# Altium footprint library Standardbauteile.PcbLib: 17 footprints (part 1 of 2)
Each footprint in its own frame and in the unit in brackets; x right, y up, seen from the top. Pads: shape width x height; smd on the part's side, far side on the other; paste and mask are expansions set on the pad; w line width, h text height; cw(c..) or ccw(c..) is an arc to the next point about the centre after c.
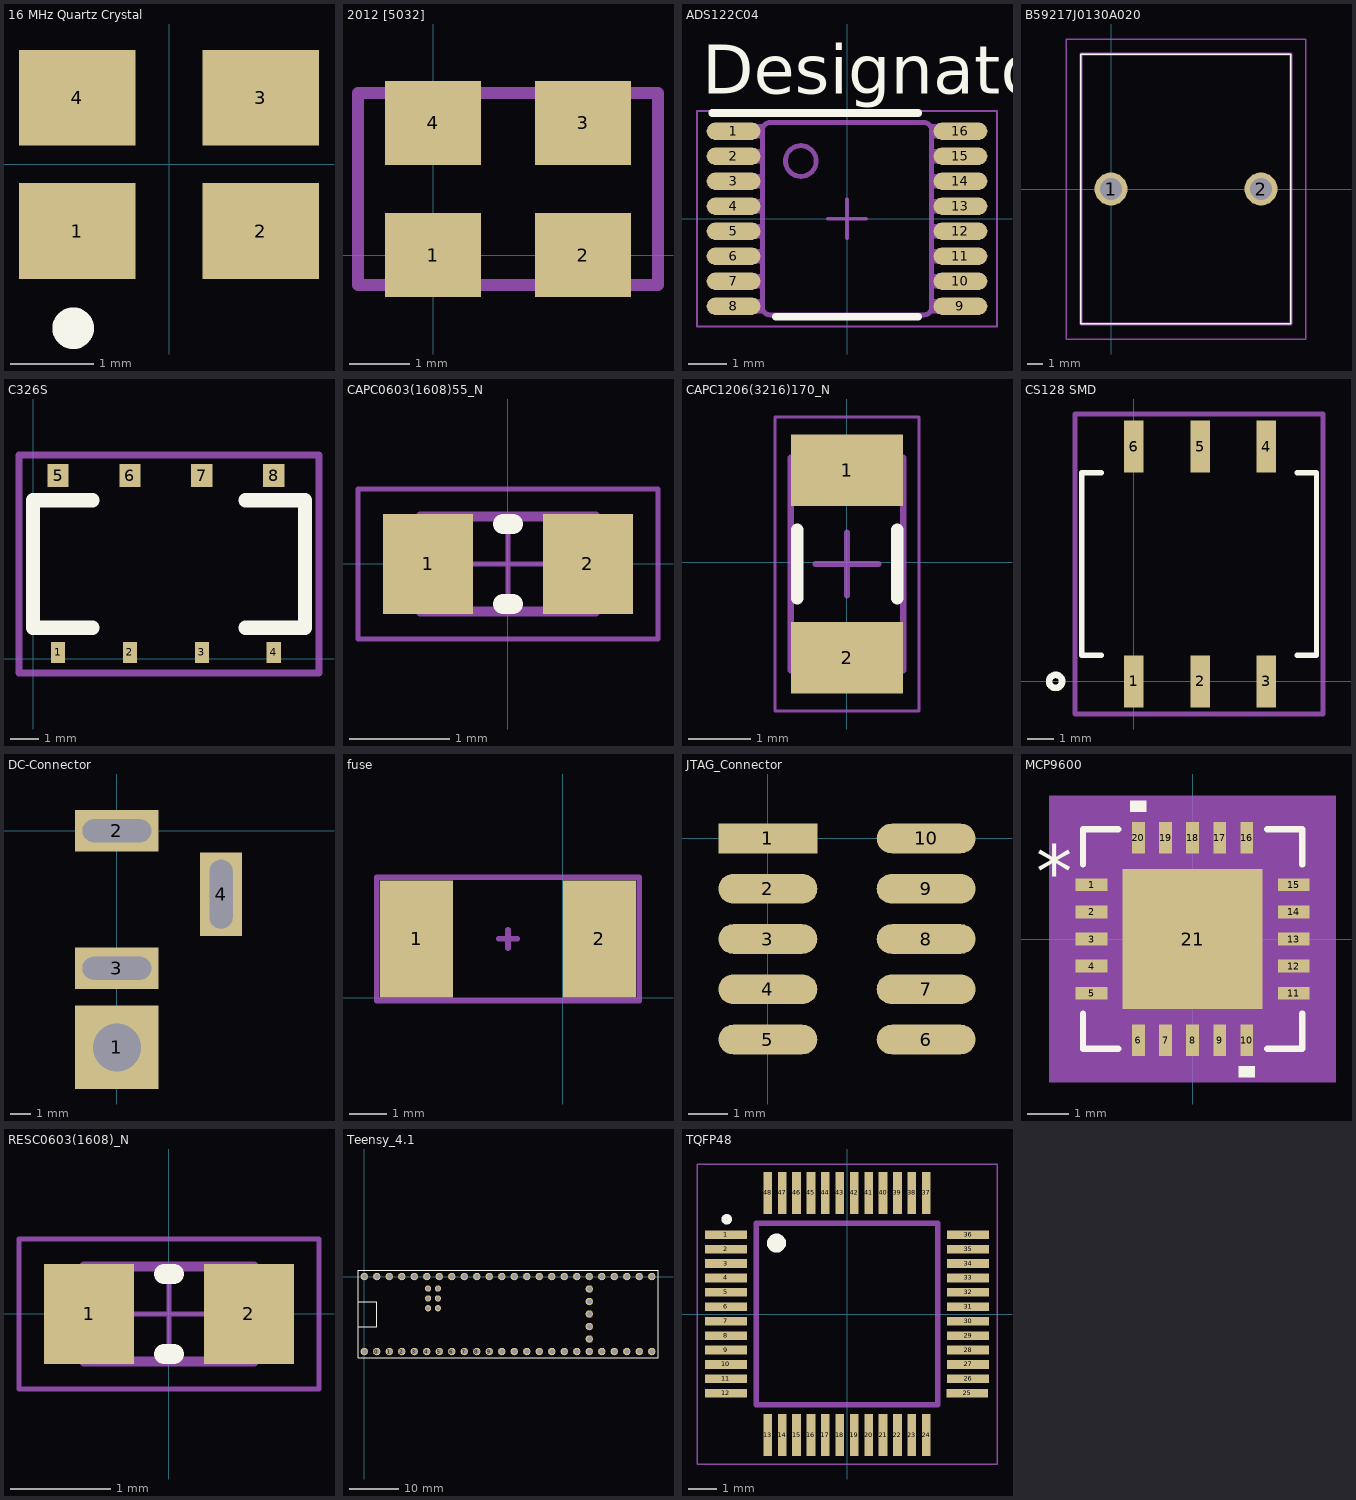
[diagram p0: the footprints below, top view; thin cyan lines are the x and y axes]

## 16 MHz Quartz Crystal [mm] "CFPX-5, Quartz Crystal, SM; Body 3.4 x 2.7 mm (LxW max)"
height 1
pads (4):
  rect 1.4x1.15 smd: 1(-1.1,-0.8) 2(1.1,-0.8) 3(1.1,0.8) 4(-1.1,0.8)
Top Overlay:
  circle w0.25: c-1.15,-1.967 r0.125

## 2012 [5032] [mm] "4-Pad Oscillator"
height 1
pads (4):
  rect 1.6x1.4 smd: 1(0,0) 2(2.5,0) 3(2.5,2.2) 4(0,2.2)
Mechanical 1:
  lines w0.2: -1.25,-0.5 -1.25,2.7 3.75,2.7 3.75,-0.5 -1.25,-0.5
3D body: height 1, standoff 0, extent -1.249,-0.499 3.749,2.699

## ADS122C04 [mm]
pads (16):
  oval 1.4x0.45 smd paste+0 mask+0.051: 1(-2.95,2.275) 2(-2.95,1.625) 3(-2.95,0.975) 4(-2.95,0.325) 5(-2.95,-0.325) 6(-2.95,-0.975) 7(-2.95,-1.625) 8(-2.95,-2.275) 9(2.95,-2.275) 10(2.95,-1.625) 11(2.95,-0.975) 12(2.95,-0.325) 13(2.95,0.325) 14(2.95,0.975) 15(2.95,1.625) 16(2.95,2.275)
Top Overlay:
  lines w0.2: -3.5,2.75 1.85,2.75 ; -1.85,-2.55 1.85,-2.55
  text "Designator9" at -3.759,3.251 h1.27
Mechanical 13:
  drawing of 202 lines, arcs and shapes, not listed
  text ".Designator" at -1.854,-1.143 h1.27
Mechanical 15:
  lines w0.05: -3.9,-2.8 3.9,-2.8 3.9,2.8 -3.9,2.8 -3.9,-2.8
  lines w0.1: -0.5,0 0.5,0 ; 0,-0.5 0,0.5
3D body: height 0.76, standoff 0, extent -2.2,-2.5 2.2,2.5
3D body: height 0.25, standoff 0, extent 0,0 0.254,0.254

## B59217J0130A020 [mm]
pads (2):
  round 2.19 hole 1.46: 1(0,0) 2(10,0)
Top Overlay:
  lines w0.1: -2,-9 -2,9 12,9 12,-9 -2,-9
Mechanical 13:
  lines w0.2: -2,-9 -2,9 12,9 12,-9 -2,-9
Mechanical 15:
  lines w0.1: -3,-10 -3,10 13,10 13,-10 -3,-10
3D body "B59219J0130A020.stp": height 22.7, standoff -5, extent -2,-9 12,9

## C326S [mm] "C326S CotoMos"
pads (8):
  rect 0.5x0.75 smd: 1(0.88,0.225) 2(3.42,0.225) 3(5.96,0.225) 4(8.5,0.225)
  rect 0.75x0.8 smd: 5(0.88,6.475) 6(3.42,6.475) 7(5.96,6.475) 8(8.5,6.475)
Top Overlay:
  lines w0.5: 2.1,1.1 0,1.1 0,5.6 2.1,5.6 ; 7.5,1.1 9.6,1.1 9.6,5.6 7.5,5.6
Mechanical 15:
  lines w0.254: -0.5,-0.5 10.1,-0.5 10.1,7 10.1,7.2 -0.5,7.2 -0.5,-0.5
3D body "SOP-8-PIN-SMD-A(2).stp": height 2.02, standoff 0.03, extent 0,-0.025 9.38,6.775
3D body: height 3.4, standoff -3.4, extent 0.9,-0.6 0.9,0.2

## CAPC0603(1608)55_N [mm] "Chip Capacitor, Body 1.6x0.8mm, Height 0.55mm, IPC Medium Density"
height 0.55
pads (2):
  rect 0.9x1 smd: 1(-0.8,0) 2(0.8,0)
Top Overlay:
  lines w0.2: -0.05,-0.4 0.05,-0.4 ; -0.05,0.4 0.05,0.4
Mechanical 13:
  lines w0.1: -0.875,-0.475 -0.875,0.475 0.875,0.475 0.875,-0.475 -0.875,-0.475
Mechanical 15:
  lines w0.05: -0.475,0 0.475,0 ; 0,-0.475 0,0.475 ; -1.5,-0.75 -1.5,0.75 1.5,0.75 1.5,-0.75 -1.5,-0.75
3D body: height 0.55, standoff 0, extent -0.525,-0.475 0.525,0.475
3D body: height 0.55, standoff 0, extent -0.875,-0.475 -0.525,0.475
3D body: height 0.55, standoff 0, extent 0.525,-0.475 0.875,0.475

## CAPC1206(3216)170_N [mm] "1206 Capacitor"
pads (2):
  rect 1.8x1.15 smd: 1(0,1.475) 2(0,-1.525)
Top Overlay:
  lines w0.2: -0.8,-0.575 -0.8,0.525 ; 0.8,-0.575 0.8,0.525
Mechanical 13:
  lines w0.1: -0.9,-1.725 0.9,-1.725 0.9,1.675 -0.9,1.675 -0.9,-1.725
Mechanical 15:
  lines w0.05: -1.15,-2.375 1.15,-2.375 1.15,2.325 -1.15,2.325 -1.15,-2.375
  lines w0.1: -0.5,-0.025 0.5,-0.025 ; 0,-0.525 0,0.475
3D body: height 1.7, standoff 0, extent -0.9,-1.225 0.9,1.175
3D body: height 1.7, standoff 0, extent -0.9,1.175 0.9,1.675
3D body: height 1.7, standoff 0, extent -0.9,-1.725 0.9,-1.225

## CS128 SMD [mm]
pads (6):
  rect 0.75x2 smd: 1(0,0) 2(2.54,0) 3(5.08,0) 4(5.08,9) 5(2.54,9) 6(0,9)
Top Overlay:
  circle w0.254: c-3,0 r0.25
  lines w0.2: -1.25,1 -2,1 -2,8 -1.25,8 ; 6.25,1 7,1 7,8 6.25,8
Mechanical 15:
  lines w0.2: -2.25,-1.25 -2.25,10.25 7.25,10.25 7.25,-1.25 -2.25,-1.25
3D body "DIP-6-PIN-SMD-A.stp": height 3.5, standoff 0, extent -1.86,-0.5 6.94,9.5

## DC-Connector [mm] "CLIFF ELECTRONIC COMPONENTS  FC681478  DC-Leistungssteckverbinder, Buchse, 2 A, 2.1 mm, Durchsteckmontage"
pads (4):
  rect 4x4 hole 2.3: 1(0,-10.4)
  rect 4x2 hole 1.1 slot 3.3 at 0 deg: 2(0,0) 3(0,-6.6)
  rect 2x4 hole 1.1 slot 3.3 at 90 deg: 4(5,-3.05)

## fuse [mm] "Sicherungen zur Aufbaumontage 500mA 350 VAC 72 VCD"
height 2.54
pads (2):
  rect 1.96x3.15 smd: 1(-3.93,1.575) 2(0.98,1.575)
Mechanical 15:
  lines w0.15: -1.725,1.575 -1.225,1.575 ; -1.475,1.325 -1.475,1.825 ; -5,-0.09 -5,3.237 2.051,3.237 2.051,-0.09 -5,-0.09
3D body: height 2.34, standoff 0.2, extent -4.524,0.076 1.575,3.075
3D body: height 2.54, standoff 0, extent -4.525,0 -3.026,3.149
3D body: height 2.54, standoff 0, extent 0.076,0 1.575,3.149

## JTAG_Connector [mm] "M50-3600542"
pads (10):
  rect 2.5x0.75 smd: 1(0,0)
  oval 2.5x0.75 smd: 2(0,-1.27) 3(0,-2.54) 4(0,-3.81) 5(0,-5.08) 6(4,-5.08) 7(4,-3.81) 8(4,-2.54) 9(4,-1.27) 10(4,0)
3D body "m50-3600542_asm.stp": height 4.68, standoff 0, extent -0.85,-5.715 4.65,0.635

## MCP9600 [mm]
pads (21):
  rect 0.757x0.306 smd paste+0 mask+0: 1(-2.423,1.3) 2(-2.423,0.65) 3(-2.423,0) 4(-2.423,-0.65) 5(-2.423,-1.3) 11(2.423,-1.3) 12(2.423,-0.65) 13(2.423,0) 14(2.423,0.65) 15(2.423,1.3)
  rect 0.306x0.757 smd paste+0 mask+0: 6(-1.3,-2.423) 7(-0.65,-2.423) 8(0,-2.423) 9(0.65,-2.423) 10(1.3,-2.423) 16(1.3,2.423) 17(0.65,2.423) 18(0,2.423) 19(-0.65,2.423) 20(-1.3,2.423)
  rect 3.353x3.353 smd paste-1.664 mask+0: 21(0,0)
Top Overlay:
  region: -1.109,3.056 -1.49,3.056 -1.49,3.31 -1.109,3.31
  region: 1.49,-3.056 1.109,-3.056 1.109,-3.31 1.49,-3.31
  lines w0.152: -2.629,-1.786 -2.629,-2.629 -1.786,-2.629 ; -2.629,1.786 -2.629,2.629 -1.786,2.629 ; 1.786,-2.629 2.629,-2.629 2.629,-1.786 ; 1.786,2.629 2.629,2.629 2.629,1.786
  text "*" at -3.754,0.99 h1.27
Top Paste:
  region: 1.576,-0.1 0.1,-0.1 0.1,-1.576 1.576,-1.576
  region: 1.576,1.576 0.1,1.576 0.1,0.1 1.576,0.1
  region: -0.1,-0.1 -1.576,-0.1 -1.576,-1.576 -0.1,-1.576
  region: -0.1,1.576 -1.576,1.576 -1.576,0.1 -0.1,0.1
Mechanical 5:
  region: 3.437,-3.437 -3.437,-3.437 -3.437,3.437 3.437,3.437
Mechanical 13:
  lines w0.025: -2.502,1.232 -1.232,2.502 ; -2.502,-2.502 -2.502,2.502 2.502,2.502 2.502,-2.502 -2.502,-2.502 ; -2.502,-1.478 -2.502,-1.122 -2.502,-1.478 ; -2.502,-0.828 -2.502,-0.472 -2.502,-0.828 ; -2.502,-0.178 -2.502,0.178 -2.502,-0.178 ; -2.502,0.472 -2.502,0.828 -2.502,0.472 ; -2.502,1.122 -2.502,1.478 -2.502,1.122 ; -1.478,-2.502 -1.122,-2.502 -1.478,-2.502 ; -1.478,2.502 -1.122,2.502 -1.478,2.502 ; -0.828,-2.502 -0.472,-2.502 -0.828,-2.502 ; -0.828,2.502 -0.472,2.502 -0.828,2.502 ; -0.178,-2.502 0.178,-2.502 -0.178,-2.502 ; -0.178,2.502 0.178,2.502 -0.178,2.502 ; 0.472,-2.502 0.828,-2.502 0.472,-2.502 ; 0.472,2.502 0.828,2.502 0.472,2.502 ; 1.122,-2.502 1.478,-2.502 1.122,-2.502 ; 1.122,2.502 1.478,2.502 1.122,2.502 ; 2.502,-1.478 2.502,-1.122 2.502,-1.478 ; 2.502,-0.828 2.502,-0.472 2.502,-0.828 ; 2.502,-0.178 2.502,0.178 2.502,-0.178 ; 2.502,0.472 2.502,0.828 2.502,0.472 ; 2.502,1.122 2.502,1.478 2.502,1.122
  text "*" at -2.362,0.99 h1.27
Mechanical 15:
  region: -1.707,-2.756 -2.756,-2.756 -2.756,-1.707 -3.056,-1.707 -3.056,1.707 -2.756,1.707 -2.756,2.756 -1.707,2.756 -1.707,3.056 1.707,3.056 1.707,2.756 2.756,2.756 2.756,1.707 3.056,1.707 3.056,-1.707 2.756,-1.707 2.756,-2.756 1.707,-2.756 1.707,-3.056 -1.707,-3.056
  lines w0.152: -3.056,-1.707 -3.056,1.707 -2.756,1.707 -2.756,2.756 -1.707,2.756 -1.707,3.056 1.707,3.056 1.707,2.756 2.756,2.756 2.756,1.707 3.056,1.707 3.056,-1.707 2.756,-1.707 2.756,-2.756 1.707,-2.756 1.707,-3.056 -1.707,-3.056 -1.707,-2.756 -2.756,-2.756 -2.756,-1.707 -3.056,-1.707
3D body: height 0.25, standoff 0, extent 0,0 0.254,0.254

## PCBComponent_1 [mm]

## RESC0603(1608)_N [mm] "Chip Resistor, Body 1.6x0.8mm, IPC Medium Density"
height 0.6
pads (2):
  rect 0.9x1 smd: 1(-0.8,0) 2(0.8,0)
Top Overlay:
  lines w0.2: -0.05,-0.4 0.05,-0.4 ; -0.05,0.4 0.05,0.4
Mechanical 13:
  lines w0.1: -0.85,-0.475 0.85,-0.475 0.85,0.475 -0.85,0.475 -0.85,-0.475
Mechanical 15:
  lines w0.05: -0.475,0 0.475,0 ; 0,-0.475 0,0.475 ; -1.5,-0.75 1.5,-0.75 1.5,0.75 -1.5,0.75 -1.5,-0.75
3D body: height 0.6, standoff 0, extent -0.849,-0.474 -0.58,0.475
3D body: height 0.6, standoff 0, extent -0.58,-0.474 0.581,0.475
3D body: height 0.6, standoff 0, extent 0.581,-0.474 0.85,0.475

## Teensy_4.1 [mil]
pads (59):
  round 60 hole 40: 0(100,-600) 1(200,-600) 2(300,-600) 3(400,-600) 3.3VO(200,0) 3.3VU(1400,-600) 4(500,-600) 5(600,-600) 6(700,-600) 7(800,-600) 8(900,-600) 9(1000,-600) 10(1100,-600) 11(1200,-600) 12(1300,-600) 13(1300,0) 14(1200,0) 15(1100,0) 16(1000,0) 17(900,0) 18(800,0) 19(700,0) 20(600,0) 21(500,0) 22(400,0) 23(300,0) 24(1500,-600) 25(1600,-600) 26(1700,-600) 27(1800,-600) 28(1900,-600) 29(2000,-600) 30(2100,-600) 31(2200,-600) 32(2300,-600) 33(2300,0) 34(2200,0) 35(2100,0) 36(2000,0) 37(1900,0) 38(1800,0) 39(1700,0) 40(1600,0) 41(1500,0) Bat3.3V(1800,-400) BATGND(1800,-300) GND(1400,0) GNDO(100,0) GNDU(0,-600) On/Off(1800,-100) Program(1800,-200) VBat(1800,-500) Vin(0,0)
  round 50 hole 30: EGND(589.37,-175.2) LED(510.63,-175.2) R+(510.63,-96.46) R-(589.37,-96.46) T+(589.37,-253.94) T-(510.63,-253.94)
Top Overlay:
  lines w10: -50,-400 100,-400 100,-200 -50,-200 ; -50,-650 2350,-650 2350,50 -50,50 -50,-650

## TQFP48 [mm] "SAMC21J18A-AUT"
pads (48):
  rect 1.45x0.3 smd: 1(-4.2,2.75) 2(-4.2,2.25) 3(-4.2,1.75) 4(-4.2,1.25) 5(-4.2,0.75) 6(-4.2,0.25) 7(-4.2,-0.25) 8(-4.2,-0.75) 9(-4.2,-1.25) 10(-4.2,-1.75) 11(-4.2,-2.25) 12(-4.2,-2.75) 25(4.17,-2.75) 26(4.2,-2.25) 27(4.2,-1.75) 28(4.2,-1.25) 29(4.2,-0.75) 30(4.2,-0.25) 31(4.2,0.25) 32(4.2,0.75) 33(4.2,1.25) 34(4.2,1.75) 35(4.2,2.25) 36(4.2,2.75)
  rect 0.3x1.45 smd: 13(-2.75,-4.2) 14(-2.25,-4.2) 15(-1.75,-4.2) 16(-1.25,-4.2) 17(-0.75,-4.2) 18(-0.25,-4.2) 19(0.25,-4.2) 20(0.75,-4.2) 21(1.25,-4.2) 22(1.75,-4.2) 23(2.25,-4.2) 24(2.75,-4.2) 37(2.75,4.2) 38(2.25,4.2) 39(1.75,4.2) 40(1.25,4.2) 41(0.75,4.2) 42(0.25,4.2) 43(-0.25,4.2) 44(-0.75,4.2) 45(-1.25,4.2) 46(-1.75,4.2) 47(-2.25,4.2) 48(-2.75,4.2)
Top Overlay:
  circle w0.4: c-2.443,2.458 r0.127
  circle w0.17: c-4.17,3.283 r0.1
Mechanical 4:
  lines w0.2: -3.15,-3.15 -3.15,3.15 ; -3.15,-3.15 3.15,-3.15 ; -3.15,-3.15 -3.15,3.15 ; -3.15,-3.15 3.15,-3.15 ; -3.15,3.15 3.15,3.15 ; -3.15,3.15 3.15,3.15 ; 3.15,-3.15 3.15,3.15 ; 3.15,-3.15 3.15,3.15
Mechanical 16:
  lines w0.05: -5.2,-5.2 -5.2,5.2 5.2,5.2 5.2,-5.2 -5.2,-5.2